# EAGLE library part ST1480ABDR (library ruark2)
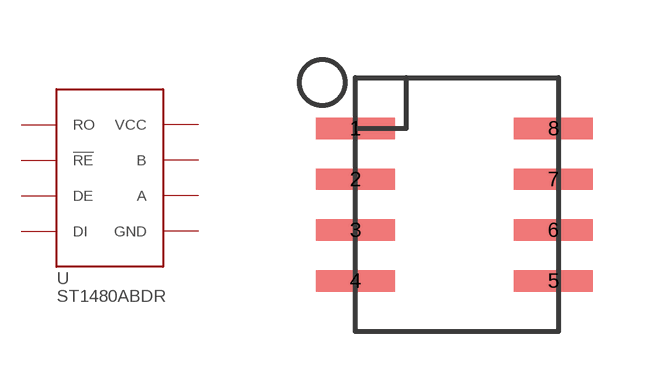
[diagram p77: symbol with the pads of SOIC8; footprint SOIC8]

Designator prefix U

## ST1480ABDR (PARTNO: 497-2046-1-ND)  [SOIC8]
1  RO
2  !RE
3  DE
4  DI
5  GND
6  A
7  B
8  VCC

## Footprint SOIC8 (pad centres in mm)
smd 1.981 x 0.533: 1 -2.477,1.905; 2 -2.477,0.635; 3 -2.477,-0.635; 4 -2.477,-1.905; 5 2.477,-1.905; 6 2.477,-0.635; 7 2.477,0.635; 8 2.477,1.905